# Altium schematic symbol library LED RGB CLEAR 4SMD 3528.Schlib: 1 symbol
Pins are listed as number, name and electrical type; pins without a type are passive.

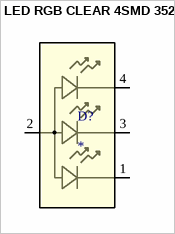
[diagram p0: symbol LED RGB CLEAR 4SMD 3528]

## LED RGB CLEAR 4SMD 3528
designator D?
LED RGB No Lead / AAA3528
pins: 1, 2, 3, 4